# EAGLE library part LPC812M101FD20FP (library LPC812)
IC, 32-bit ARM Cortex-M0+ microcontroller 16 kB flash and 4 kB SRAM, SO20
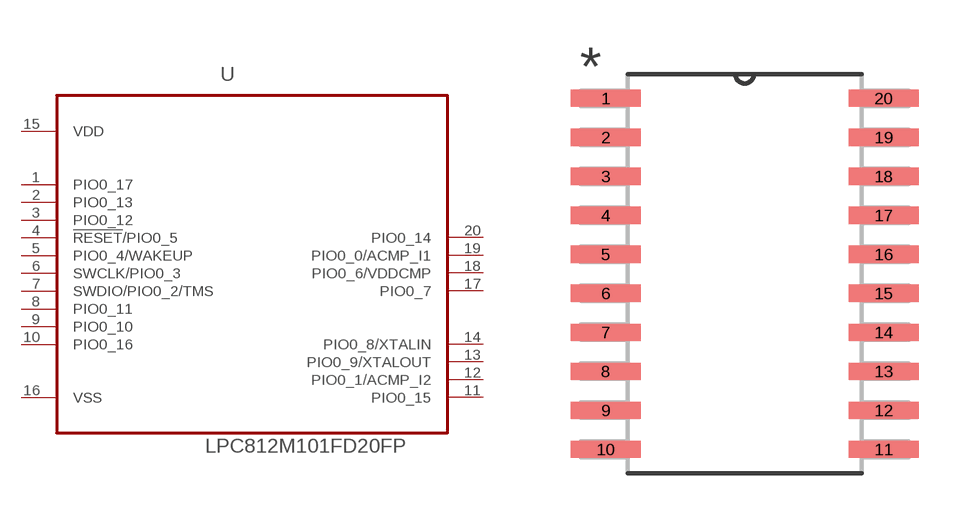
[diagram p0: symbol with the pads of SOIC127P1032X265-20N; footprint SOIC127P1032X265-20N]

Designator prefix U

## LPC812M101FD20FP (MPN: LPC812M101FD20FP; OC_FARNELL: 2295531; OC_NEWARK: 69W0666; PACKAGE: SO20; SUPPLIER: NXP)  [SOIC127P1032X265-20N]
1  PIO0_17
2  PIO0_13
3  PIO0_12
4  !RESET!/PIO0_5
5  PIO0_4/WAKEUP
6  SWCLK/PIO0_3
7  SWDIO/PIO0_2/TMS
8  PIO0_11  in
9  PIO0_10  in
10  PIO0_16
11  PIO0_15
12  PIO0_1/ACMP_I2
13  PIO0_9/XTALOUT
14  PIO0_8/XTALIN
15  VDD  pwr
16  VSS  pwr
17  PIO0_7
18  PIO0_6/VDDCMP
19  PIO0_0/ACMP_I1
20  PIO0_14

## Footprint SOIC127P1032X265-20N (pad centres in mm)
LPC812M101JD20FP
smd 2.286 x 0.559: 1 -4.521,5.715; 2 -4.521,4.445; 3 -4.521,3.175; 4 -4.521,1.905; 5 -4.521,0.635; 6 -4.521,-0.635; 7 -4.521,-1.905; 8 -4.521,-3.175; 9 -4.521,-4.445; 10 -4.521,-5.715; 11 4.521,-5.715; 12 4.521,-4.445; 13 4.521,-3.175; 14 4.521,-1.905; 15 4.521,-0.635; 16 4.521,0.635; 17 4.521,1.905; 18 4.521,3.175; 19 4.521,4.445; 20 4.521,5.715